# Altium schematic symbol library Rover_Motor_Driver.SchLib: 13 symbols
Pins are listed as number, name and electrical type; pins without a type are passive.

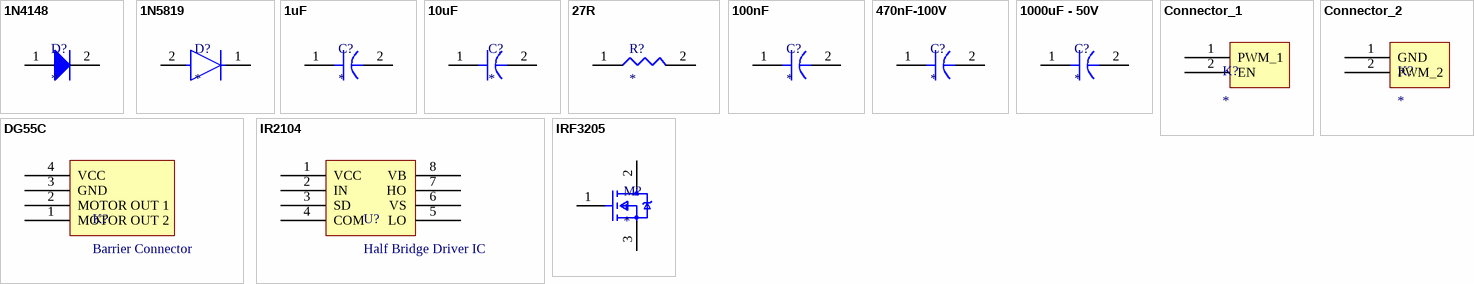
[diagram p0: symbols 1N4148 to IRF3205]

## 1N4148
designator D?
footprint 1N4148
pins: 1 A, 2 K

## 1N5819
designator D?
footprint 1N5819 (Diode)
pins: 1 C, 2 A

## 1uF
designator C?
footprint C1206
pins: 1, 2

## 10uF
designator C?
footprint C1206
pins: 1, 2

## 27R
designator R?
footprint R0603 (Resistor 27R)
pins: 1, 2

## 100nF
designator C?
footprint C1206
pins: 1, 2

## 470nF-100V
designator C?
footprint C1206
pins: 1, 2

## 1000uF - 50V
designator C?
footprint 1000uF 50V Capacitor
pins: 1, 2

## Connector_1
designator K?
footprint DG126-Konnektör
pins: 1 PWM_1, 2 EN

## Connector_2
designator K?
footprint DG126-Konnektör
pins: 1 GND, 2 PWM_2

## DG55C
designator K?, comment Barrier Connector
footprint DG55C (PCB Güç Konnektör)
pins: 1 MOTOR OUT 2, 2 MOTOR OUT 1, 3 GND, 4 VCC

## IR2104
designator U?, comment Half Bridge Driver IC
footprint IR2104 (H-bridge MOSFET Driver)
pins: 1 VCC, 2 IN, 3 SD, 4 COM, 5 LO, 6 VS, 7 HO, 8 VB

## IRF3205
designator M?
footprint IRF3205 (MOSFET)
pins: 1 G, 2 D, 3 S